# Altium footprint library BK-18650-PC1.PcbLib: 1 footprints
Each footprint in its own frame and in the unit in brackets; x right, y up, seen from the top. Pads: shape width x height; smd on the part's side, far side on the other; paste and mask are expansions set on the pad; w line width, h text height; cw(c..) or ccw(c..) is an arc to the next point about the centre after c.
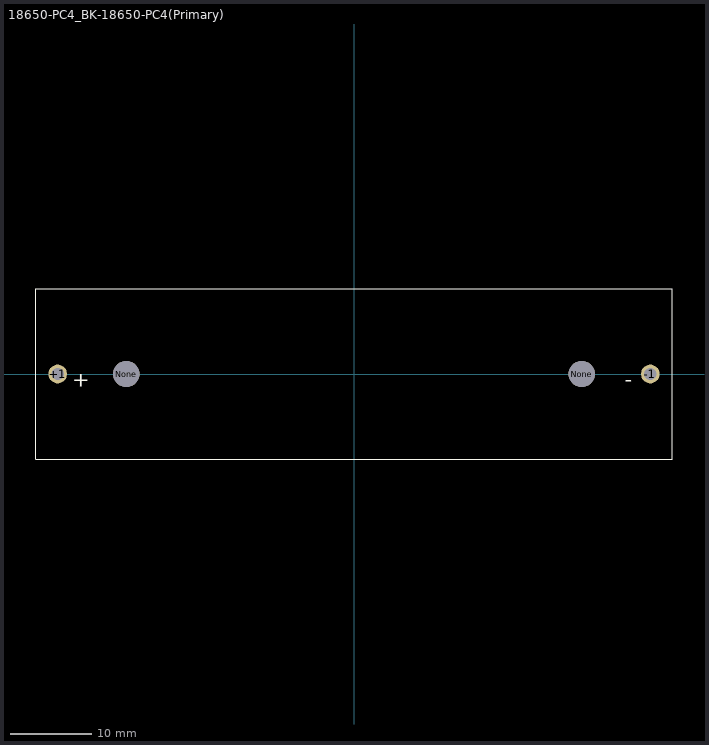
[diagram p0: the footprint, top view; thin cyan lines are the x and y axes]

## 18650-PC4_BK-18650-PC4(Primary) [mil]
pads (4):
  round 90 hole 60: +1(-1425,0) -1(1425,0)
  round 126 hole 126 unplated: None(-1095,0) None(1095,0)
Top Overlay:
  lines w5: -1530,-410 1530,-410 1530,410 -1530,410 -1530,-410
  text "-" at 1302.32,-60.61 h73.82
  text "+" at -1354.5,-61.28 h73.82
3D body "BK-18650-PC1.STEP": height 852.36, standoff -150.59, extent -1528.66,-409.45 1528.43,409.45